# EAGLE library part CQ2065 (library CurrentSensing)
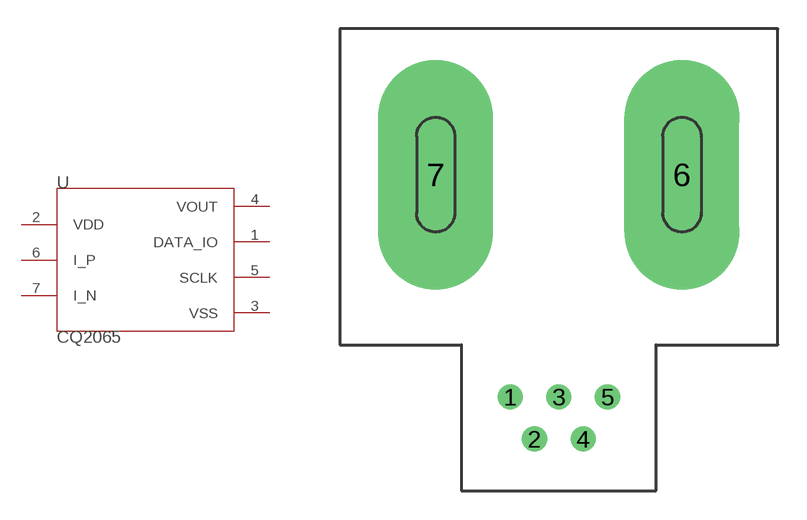
[diagram p0: symbol with the pads of CQ2065; footprint CQ2065]

Designator prefix -

## CQ2065  [CQ2065]
1  DATA_IO
2  VDD
3  VSS
4  VOUT
5  SCLK
6  I_P  pas
7  I_N  pas

## Footprint CQ2065 (pad centres in mm)
drill 0.8: 1 -2.54,-11.6; 2 -1.27,-13.8; 3 0,-11.6; 4 1.27,-13.8; 5 2.54,-11.6
drill 2 pad 6 long: 6 6.425,0; 7 -6.425,0